# Altium schematic symbol library DB.SchLib: 1 symbol
Pins are listed as number, name and electrical type; pins without a type are passive.

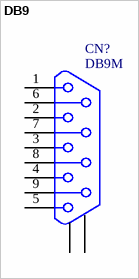
[diagram p0: symbol DB9]

## DB9
designator CN?, comment DB9M
value: DRB-9MA
pins: 1, 2, 3, 4, 5, 6, 7, 8, 9, 10, 11